# Altium integrated library Switches - DIP.IntLib: 1 symbol
Pins are listed as number, name and electrical type; pins without a type are passive.

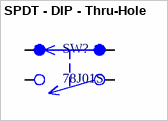
[diagram p0: symbol SPDT - DIP - Thru-Hole]

## SPDT - DIP - Thru-Hole
designator SW?, comment 78J01S
Switch, SPDT, DIP, Raised slide, 1 position, Thru-Hole; Manufacturer: Grayhill Inc.; Voltage Rating (AC/DC): 30Vdc; Configuration: SPDT; Current Rating (AC/DC): -; PackageDescription: SPDT, DIP, 0.1" x 0.3:" pin spacing, 4 pins; Package Reference: SPDT; Part Number: 78J01S; Switch Function: Slide; Supplier 1: Newark; Supplier Part Number 1: 14N1136; Supplier 2: Mouser; Supplier Part Number 2: 706-78J01ST; Supplier 3: Digi-Key; Supplier Part Number 3: GH7736-ND
footprint SPDT (SPDT, DIP, 0.1" x 0.3:" pin spacing, 4 pins)
pins: 1, 2, 3, 4